# Altium footprint library VS-30BQ060-M3&slash_9AT.PcbLib: 1 footprints
Each footprint in its own frame and in the unit in brackets; x right, y up, seen from the top. Pads: shape width x height; smd on the part's side, far side on the other; paste and mask are expansions set on the pad; w line width, h text height; cw(c..) or ccw(c..) is an arc to the next point about the centre after c.
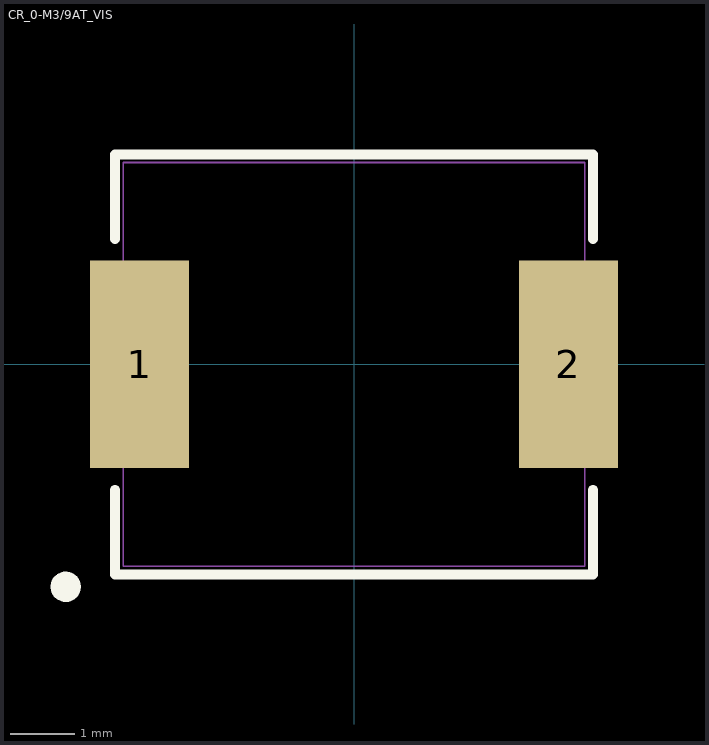
[diagram p0: the footprint, top view; thin cyan lines are the x and y axes]

## CR_0-M3/9AT_VIS [mil]
pads (2):
  rect 60x126 smd paste+0 mask+0: 1(-130.12,0) 2(130.12,0)
Top Overlay:
  circle w10: c-175,-135 r4.18
  lines w6: -145,-76.1 -145,-127.5 145,-127.5 145,-76.1 ; -145,76.1 -145,127.5 145,127.5 145,76.1
Mechanical 13:
  lines w1: -140,-122.5 -140,122.5 140,122.5 140,-122.5 -140,-122.5
3D body "CR_0-M39AT_VIS.step": height 105, standoff 0, extent -140,-122.52 140,122.52